# Altium footprint library capacitor-0402.PcbLib: 1 footprints
Each footprint in its own frame and in the unit in brackets; x right, y up, seen from the top. Pads: shape width x height; smd on the part's side, far side on the other; paste and mask are expansions set on the pad; w line width, h text height; cw(c..) or ccw(c..) is an arc to the next point about the centre after c.
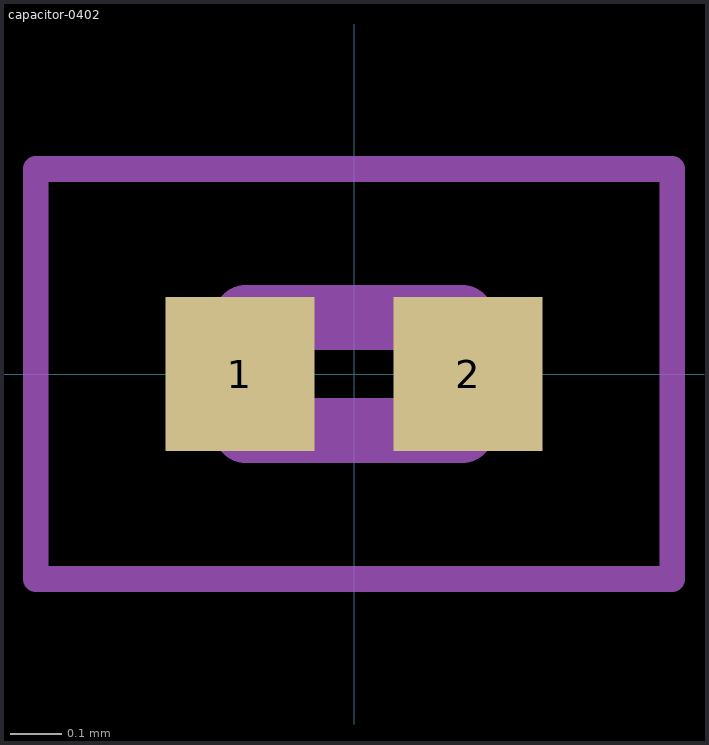
[diagram p0: the footprint, top view; thin cyan lines are the x and y axes]

## capacitor-0402 [mm] "NP0 01005 (0402 Metric)"
pads (2):
  rect 0.29x0.3 smd paste+0 mask+0.102: 1(-0.222,0) 2(0.222,0)
Mechanical 13:
  lines w0.127: -0.21,-0.11 -0.21,0.11 0.21,0.11 0.21,-0.11 -0.21,-0.11
Mechanical 15:
  lines w0.05: -0.619,-0.399 -0.619,0.399 0.619,0.399 0.619,-0.399 -0.619,-0.399
3D body "step_temp.STEP": height 0.22, standoff 0, extent -0.2,-0.1 0.2,0.1